# EAGLE library part 80C576 (library micro-philips)
8051 -compatible 8-bit Microcontroller
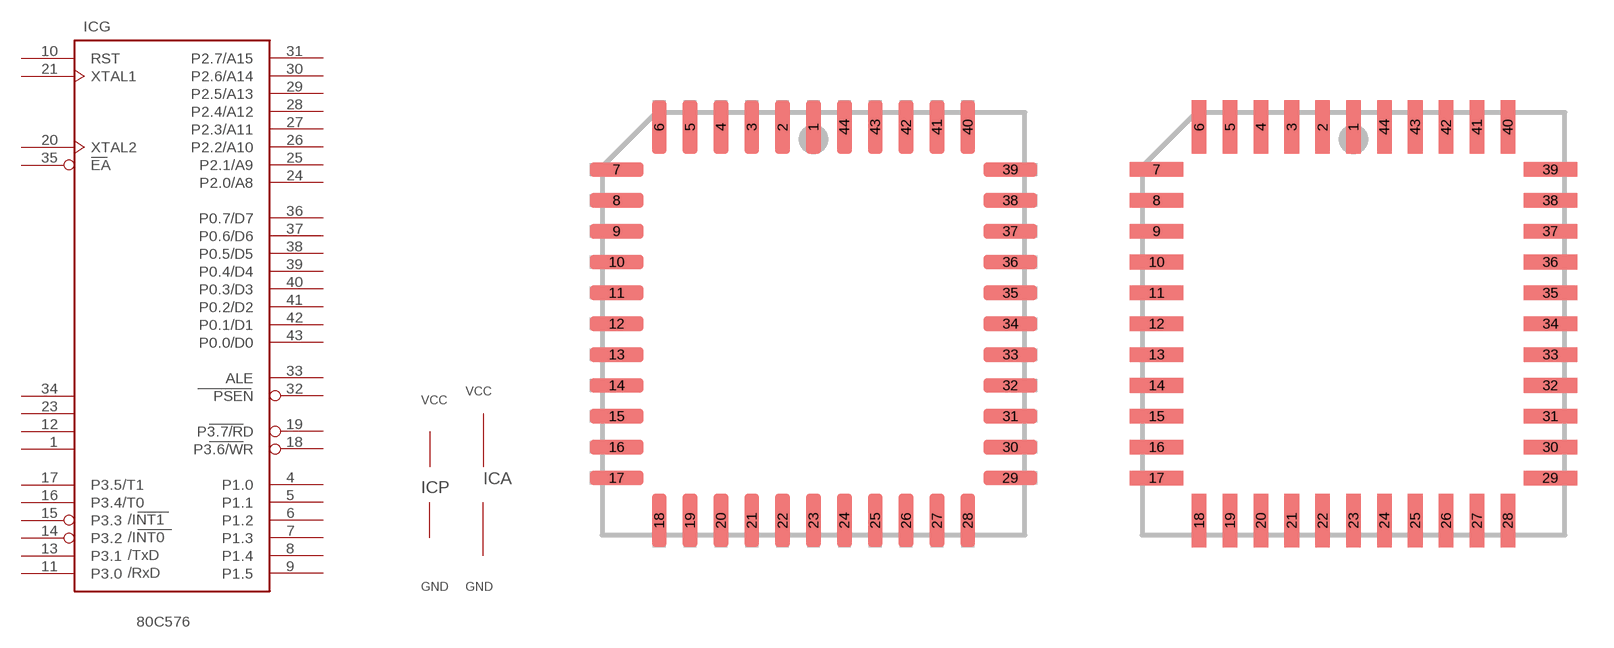
[diagram p0: symbol with the pads of PLCC44; footprints PLCC44, PLCC44S]

Designator prefix IC; gates P=PWR2 A=PWRA G=8XC576

## 80C576SMD (OC_FARNELL: unknown; OC_NEWARK: unknown)  [PLCC44]
1  G:NC  nc
2  A:AVCC  pwr
3  A:AGND  pwr
4  G:P1.0
5  G:P1.1
6  G:P1.2
7  G:P1.3
8  G:P1.4
9  G:P1.5
10  G:RST  in
11  G:P3.0
12  G:NC  nc
13  G:P3.1
14  G:P3.2
15  G:P3.3
16  G:P3.4/T0
17  G:P3.5/T1
18  G:P3.6/WR
19  G:P3.7/RD
20  G:XTAL2  in
21  G:XTAL1  in
22  P:GND  pwr
23  G:NC  nc
24  G:P2.0/A8
25  G:P2.1/A9
26  G:P2.2/A10
27  G:P2.3/A11
28  G:P2.4/A12
29  G:P2.5/A13
30  G:P2.6/A14
31  G:P2.7/A15
32  G:PSEN  out
33  G:ALE  out
34  G:NC  nc
35  G:EA  in
36  G:P0.7/D7
37  G:P0.6/D6
38  G:P0.5/D5
39  G:P0.4/D4
40  G:P0.3/D3
41  G:P0.2/D2
42  G:P0.1/D1
43  G:P0.0/D0
44  P:VCC  pwr

## 80C576S (OC_FARNELL: unknown; OC_NEWARK: unknown)  [PLCC44S]
Pads as for PLCC44

## Footprint PLCC44 (pad centres in mm)
PLASTIC LEADED CHIP CARRIER square
smd 0.6 x 2.2: 1 0,6.83; 2 -1.27,6.83; 3 -2.54,6.83; 4 -3.81,6.83; 5 -5.08,6.83; 6 -6.35,6.83; 18 -6.35,-9.37; 19 -5.08,-9.37; 20 -3.81,-9.37; 21 -2.54,-9.37; 22 -1.27,-9.37; 23 0,-9.37; 24 1.27,-9.37; 25 2.54,-9.37; 26 3.81,-9.37; 27 5.08,-9.37; 28 6.35,-9.37; 40 6.35,6.83; 41 5.08,6.83; 42 3.81,6.83; 43 2.54,6.83; 44 1.27,6.83
smd 2.2 x 0.6: 7 -8.1,5.08; 8 -8.1,3.81; 9 -8.1,2.54; 10 -8.1,1.27; 11 -8.1,0; 12 -8.1,-1.27; 13 -8.1,-2.54; 14 -8.1,-3.81; 15 -8.1,-5.08; 16 -8.1,-6.35; 17 -8.1,-7.62; 29 8.1,-7.62; 30 8.1,-6.35; 31 8.1,-5.08; 32 8.1,-3.81; 33 8.1,-2.54; 34 8.1,-1.27; 35 8.1,0; 36 8.1,1.27; 37 8.1,2.54; 38 8.1,3.81; 39 8.1,5.08

## Footprint PLCC44S (pad centres in mm)
PLASTIC LEADED CHIP CARRIER square
smd 0.6 x 2.2: 1 0,8.1; 2 -1.27,8.1; 3 -2.54,8.1; 4 -3.81,8.1; 5 -5.08,8.1; 6 -6.35,8.1; 18 -6.35,-8.1; 19 -5.08,-8.1; 20 -3.81,-8.1; 21 -2.54,-8.1; 22 -1.27,-8.1; 23 0,-8.1; 24 1.27,-8.1; 25 2.54,-8.1; 26 3.81,-8.1; 27 5.08,-8.1; 28 6.35,-8.1; 40 6.35,8.1; 41 5.08,8.1; 42 3.81,8.1; 43 2.54,8.1; 44 1.27,8.1
smd 2.2 x 0.6: 7 -8.1,6.35; 8 -8.1,5.08; 9 -8.1,3.81; 10 -8.1,2.54; 11 -8.1,1.27; 12 -8.1,0; 13 -8.1,-1.27; 14 -8.1,-2.54; 15 -8.1,-3.81; 16 -8.1,-5.08; 17 -8.1,-6.35; 29 8.1,-6.35; 30 8.1,-5.08; 31 8.1,-3.81; 32 8.1,-2.54; 33 8.1,-1.27; 34 8.1,0; 35 8.1,1.27; 36 8.1,2.54; 37 8.1,3.81; 38 8.1,5.08; 39 8.1,6.35